# Altium schematic symbol library TransFet.SchLib: 7 symbols
Pins are listed as number, name and electrical type; pins without a type are passive.

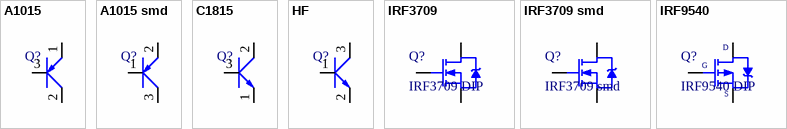
[diagram p0: symbols A1015 to IRF9540]

## A1015
designator Q?, comment A1015 DIP  (value not drawn)
PNP transistor
footprint TO-92
pins: 1 E, 2 C, 3 B

## A1015 smd
designator Q?  (value not drawn)
PNP transistor
footprint SOT-23
pins: 1 B, 2 E, 3 C

## C1815
designator Q?, comment C1815 DIP  (value not drawn)
NPN
footprint TO-92
pins: 1 E, 2 C, 3 B

## HF
designator Q?, comment C1815 smd  (value not drawn)
Transitor NPN
footprint SOT-23
pins: 1 B, 2 E, 3 C

## IRF3709
designator Q?, comment IRF3709 DIP
DIP
footprint TO-220
pins: 1 G, 2 D, 3 S

## IRF3709 smd
designator Q?
N - Channel MOSFET
footprint TO-252
pins: 1 G, 2 D, 3 S

## IRF9540
designator Q?, comment IRF9540 DIP
P - Channel Power MOSFET
footprint TO-220
pins: 1 G, 2 D, 3 S